# Altium schematic symbol library U_VNC2-QFN32.SchLib: 1 symbol
Pins are listed as number, name and electrical type; pins without a type are passive.

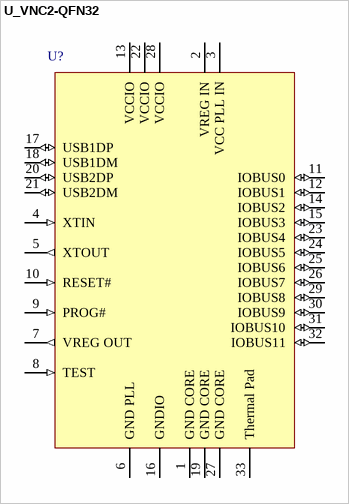
[diagram p0: symbol U_VNC2-QFN32]

## U_VNC2-QFN32
designator U?
pins: 1 GND CORE (power), 2 VREG IN (power), 3 VCC PLL IN (power), 4 XTIN (in), 5 XTOUT (out), 6 GND PLL (power), 7 VREG OUT (out), 8 TEST (in), 9 PROG# (in), 10 RESET# (in), 11 IOBUS0 (io), 12 IOBUS1 (io), 13 VCCIO (power), 14 IOBUS2 (io), 15 IOBUS3 (io), 16 GNDIO (power), 17 USB1DP (io), 18 USB1DM (io), 19 GND CORE (power), 20 USB2DP (io), 21 USB2DM (io), 22 VCCIO (power), 23 IOBUS4 (io), 24 IOBUS5 (io), 25 IOBUS6 (io), 26 IOBUS7 (io), 27 GND CORE (power), 28 VCCIO (power), 29 IOBUS8 (io), 30 IOBUS9 (io), 31 IOBUS10 (io), 32 IOBUS11 (io), 33 Thermal Pad